# Altium schematic symbol library C-EEE-FK1E470P.Schlib: 1 symbol
Pins are listed as number, name and electrical type; pins without a type are passive.

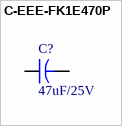
[diagram p0: symbol C-EEE-FK1E470P]

## C-EEE-FK1E470P
designator C?, comment 47uF/25V
Aluminum Electrolytic Capacitors - SMD 47uF 25V
pins: 1, 2